# Altium footprint library DRV8245SQRXZRQ1.PcbLib: 1 footprints
Each footprint in its own frame and in the unit in brackets; x right, y up, seen from the top. Pads: shape width x height; smd on the part's side, far side on the other; paste and mask are expansions set on the pad; w line width, h text height; cw(c..) or ccw(c..) is an arc to the next point about the centre after c.
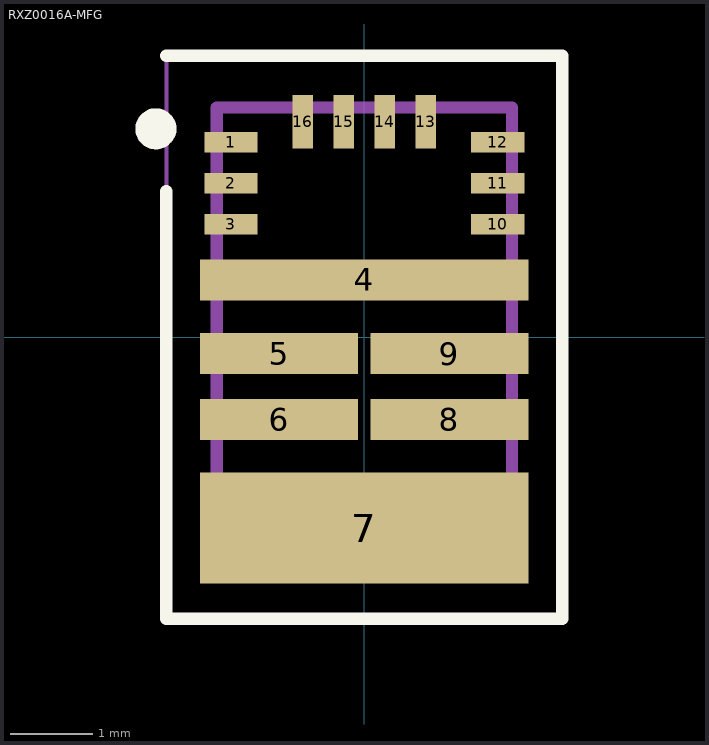
[diagram p0: the footprint, top view; thin cyan lines are the x and y axes]

## RXZ0016A-MFG [mm]
pads (16):
  rect 0.65x0.25 smd paste+0 mask+0: 1(-1.625,2.375) 2(-1.625,1.875) 3(-1.625,1.375) 10(1.625,1.375) 11(1.625,1.875) 12(1.625,2.375)
  rect 4x0.5 smd paste-1.987 mask-1.981: 4(0,0.7)
  rect 1.925x0.5 smd paste-0.95 mask-0.953: 5(-1.038,-0.2) 6(-1.038,-1) 8(1.038,-1) 9(1.038,-0.2)
  rect 4x1.35 smd paste-1.987 mask-1.981: 7(0,-2.325)
  rect 0.25x0.65 smd paste+0 mask+0: 13(0.75,2.625) 14(0.25,2.625) 15(-0.25,2.625) 16(-0.75,2.625)
Top Overlay:
  circle w0.25: c-2.54,2.54 r0.125
  lines w0.15: -2.413,1.778 -2.413,-3.429 2.413,-3.429 2.413,3.429 -2.413,3.429
Top Paste:
  region: 0.875,-2.9 0.825,-2.95 0.675,-2.95 0.625,-2.9 0.625,-2.35 0.675,-2.3 0.825,-2.3 0.875,-2.35
  region: 0.125,-2.9 0.125,-2.35 0.175,-2.3 0.325,-2.3 0.375,-2.35 0.375,-2.9 0.325,-2.95 0.175,-2.95
  region: -0.375,-2.9 -0.375,-2.35 -0.325,-2.3 -0.175,-2.3 -0.125,-2.35 -0.125,-2.9 -0.175,-2.95 -0.325,-2.95
  region: -0.875,-2.9 -0.875,-2.35 -0.825,-2.3 -0.675,-2.3 -0.625,-2.35 -0.625,-2.9 -0.675,-2.95 -0.825,-2.95
  region: 1.95,-1.975 1.95,-1.825 1.9,-1.775 1.6,-1.775 1.6,-1.7 0.15,-1.7 0.1,-1.75 0.1,-2.05 0.15,-2.1 1.6,-2.1 1.6,-2.025 1.9,-2.025
  region: -1.95,-1.975 -1.95,-1.825 -1.9,-1.775 -1.6,-1.775 -1.6,-1.7 -0.15,-1.7 -0.1,-1.75 -0.1,-2.05 -0.15,-2.1 -1.6,-2.1 -1.6,-2.025 -1.9,-2.025
  region: 1.95,-0.275 1.95,-0.125 1.9,-0.075 1.6,-0.075 1.6,0 0.175,0 0.125,-0.05 0.125,-0.35 0.175,-0.4 1.6,-0.4 1.6,-0.325 1.9,-0.325
  region: 1.95,-1.075 1.95,-0.925 1.9,-0.875 1.6,-0.875 1.6,-0.8 0.175,-0.8 0.125,-0.85 0.125,-1.15 0.175,-1.2 1.6,-1.2 1.6,-1.125 1.9,-1.125
  region: -1.95,-1.075 -1.95,-0.925 -1.9,-0.875 -1.6,-0.875 -1.6,-0.8 -0.175,-0.8 -0.125,-0.85 -0.125,-1.15 -0.175,-1.2 -1.6,-1.2 -1.6,-1.125 -1.9,-1.125
  region: -1.95,-0.275 -1.95,-0.125 -1.9,-0.075 -1.6,-0.075 -1.6,0 -0.175,0 -0.125,-0.05 -0.125,-0.35 -0.175,-0.4 -1.6,-0.4 -1.6,-0.325 -1.9,-0.325
  region: 1.95,0.625 1.95,0.775 1.9,0.825 1.6,0.825 1.6,0.9 0.15,0.9 0.1,0.85 0.1,0.55 0.15,0.5 1.6,0.5 1.6,0.575 1.9,0.575
  region: -1.95,0.625 -1.95,0.775 -1.9,0.825 -1.6,0.825 -1.6,0.9 -0.15,0.9 -0.1,0.85 -0.1,0.55 -0.15,0.5 -1.6,0.5 -1.6,0.575 -1.9,0.575
Top Solder:
  region: -1.95,-1.975 -1.95,-1.825 -1.9,-1.775 -1.6,-1.775 -1.6,-1.7 1.6,-1.7 1.6,-1.775 1.9,-1.775 1.95,-1.825 1.95,-1.975 1.9,-2.025 1.6,-2.025 1.6,-2.1 0.875,-2.1 0.875,-2.9 0.825,-2.95 0.675,-2.95 0.625,-2.9 0.625,-2.1 0.375,-2.1 0.375,-2.9 0.325,-2.95 0.175,-2.95 0.125,-2.9 0.125,-2.1 -0.125,-2.1 -0.125,-2.9 -0.175,-2.95 -0.325,-2.95 -0.375,-2.9 -0.375,-2.1 -0.625,-2.1 -0.625,-2.9 -0.675,-2.95 -0.825,-2.95 -0.875,-2.9 -0.875,-2.1 -1.6,-2.1 -1.6,-2.025 -1.9,-2.025
  region: 1.95,-0.275 1.95,-0.125 1.9,-0.075 1.6,-0.075 1.6,0 0.175,0 0.125,-0.05 0.125,-0.35 0.175,-0.4 1.6,-0.4 1.6,-0.325 1.9,-0.325
  region: 1.95,-1.075 1.95,-0.925 1.9,-0.875 1.6,-0.875 1.6,-0.8 0.175,-0.8 0.125,-0.85 0.125,-1.15 0.175,-1.2 1.6,-1.2 1.6,-1.125 1.9,-1.125
  region: -1.95,-1.075 -1.95,-0.925 -1.9,-0.875 -1.6,-0.875 -1.6,-0.8 -0.175,-0.8 -0.125,-0.85 -0.125,-1.15 -0.175,-1.2 -1.6,-1.2 -1.6,-1.125 -1.9,-1.125
  region: -1.95,-0.275 -1.95,-0.125 -1.9,-0.075 -1.6,-0.075 -1.6,0 -0.175,0 -0.125,-0.05 -0.125,-0.35 -0.175,-0.4 -1.6,-0.4 -1.6,-0.325 -1.9,-0.325
  region: -1.95,0.625 -1.95,0.775 -1.9,0.825 -1.6,0.825 -1.6,0.9 1.6,0.9 1.6,0.825 1.9,0.825 1.95,0.775 1.95,0.625 1.9,0.575 1.6,0.575 1.6,0.5 -1.6,0.5 -1.6,0.575 -1.9,0.575
Mechanical 13:
  lines w0.15: -1.8,-2.8 -1.8,2.8 1.8,2.8 1.8,-2.8 -1.8,-2.8
Mechanical 15:
  lines w0.05: -2.413,-3.429 -2.413,3.429 2.413,3.429 2.413,-3.429 -2.413,-3.429
3D body "RXZ0016A.stp": height 1, standoff 0, extent -1.75,-2.75 1.75,2.75